# Altium schematic symbol library SVN_lib.SchLib: 165 symbols (part 1 of 2)
Pins are listed as number, name and electrical type; pins without a type are passive.

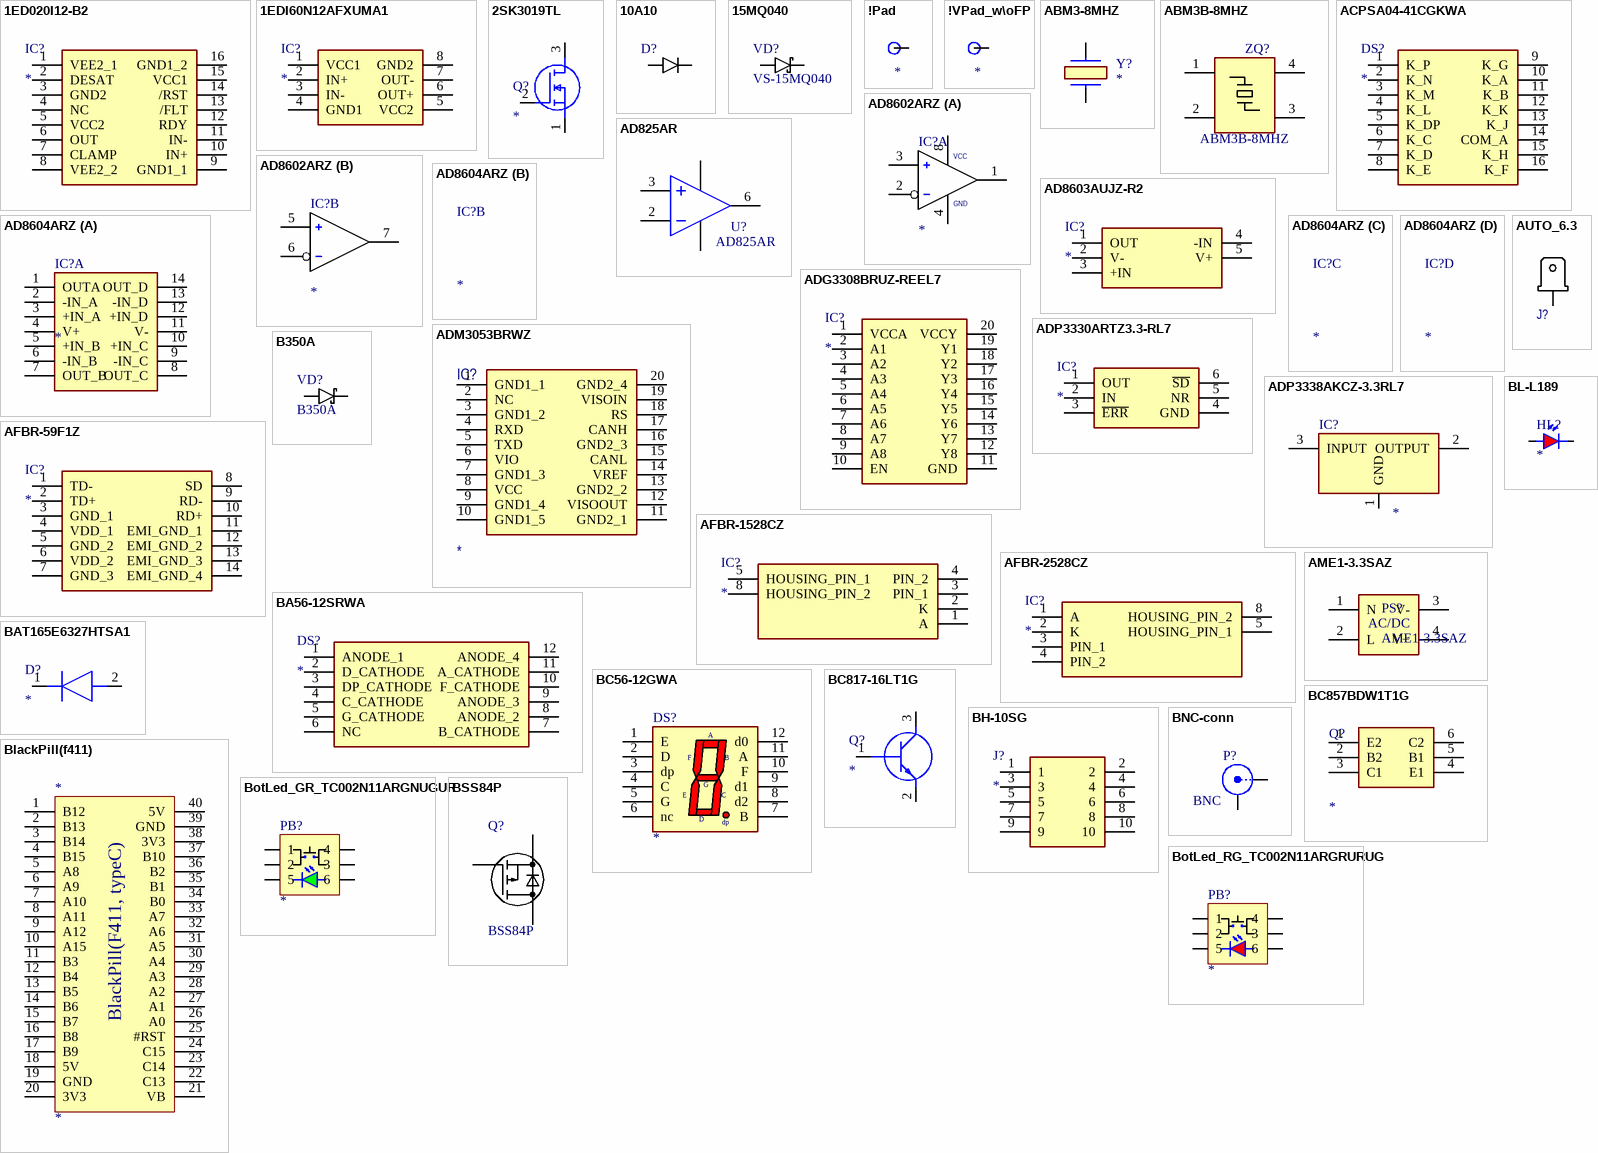
[diagram p0: symbols 1ED020I12-B2 to BSS84P]

## 1ED020I12-B2
designator IC?
Integrated Circuit; Manufacturer_Name: Infineon; Manufacturer_Part_Number: 1ED020I12-B2; Datasheet Link: https://www.infineon.com/dgdl/Infineon-1ED020I12-B2-DS-v02_01-EN.pdf?fileId=db3a304333227b5e013344bf16f84ca6; Height: 2.64mm; Mouser Part Number: 641-1ED020I12-B2; Mouser Price/Stock: https://www.mouser.co.uk/ProductDetail/Infineon-Technologies/1ED020I12-B2?qs=SxJJk0kk1p9Jwv3JdBgdAg%3D%3D
footprint SOIC127P1028X264-16N
pins: 1 VEE2_1, 2 DESAT, 3 GND2, 4 NC, 5 VCC2, 6 OUT, 7 CLAMP, 8 VEE2_2, 9 GND1_1, 10 IN+, 11 IN-, 12 RDY, 13 /FLT, 14 /RST, 15 VCC1, 16 GND1_2

## 1EDI60N12AFXUMA1
designator IC?
Integrated Circuit; Manufacturer_Name: Infineon; Manufacturer_Part_Number: 1EDI60N12AFXUMA1; Datasheet Link: https://www.infineon.com/dgdl/Infineon-1EDI60N12AF-DS-v02_00-EN.pdf?fileId=db3a3043427ac3e201428e5da08f372a; Height: 1.75mm; Mouser Part Number: 726-1EDI60N12AFXUMA1; Mouser Price/Stock: https://www.mouser.co.uk/ProductDetail/Infineon-Technologies/1EDI60N12AFXUMA1?qs=3Bi3m9r5MQZ%2FPKSdeeAtFg%3D%3D; Arrow Part Number: 1EDI60N12AFXUMA1; Arrow Price/Stock: https://www.arrow.com/en/products/1edi60n12afxuma1/infineon-technologies-ag?region=nac
footprint SOIC127P600X175-8N
pins: 1 VCC1, 2 IN+, 3 IN-, 4 GND1, 5 VCC2, 6 OUT+, 7 OUT-, 8 GND2

## 2SK3019TL
designator Q?
MOSFET (N-Channel); Manufacturer_Name: ROHM Semiconductor; Manufacturer_Part_Number: 2SK3019TL; Datasheet Link: http://www.mouser.com/ds/2/348/2sk3019-208766.pdf; Height: 0.8mm; Mouser Part Number: 755-2SK3019TL; Mouser Price/Stock: https://www.mouser.co.uk/ProductDetail/ROHM-Semiconductor/2SK3019TL?qs=4kLU8WoGk0vQcc5cG%2F%2FTDQ%3D%3D
footprint 2SK3019TL
pins: 1 S, 2 G, 3 D

## 10A10
designator D?
Case: P-600
footprint 10A10 (Diode)
footprint 10A10x18mm (Diode)
footprint 10A10x28mm (Diode)
pins: 1, 2

## 15MQ040
designator VD?, comment VS-15MQ040
High Performance Schottky Rectifier, 1.5 A
footprint SMA (DO-214AC) (Schottky Rectifier)
pins: 1 K, 2 A

## !Pad
designator Pad?
System: Connector; NetName: *
footprint Pad_2mm
footprint Pad_3mm
footprint Pad_4mm
pins: 1

## !VPad_w\oFP
designator VPad?  (mechanical)
Virtual connector; NetName: *; System: Connector
pins: 1

## ABM3-8MHZ
designator Y?
Crystal D2Y; Manufacturer_Name: ABRACON; Manufacturer_Part_Number: ABM3-10.0000MHZ-D2Y-T; Datasheet Link: https://abracon.com/Resonators/abm3.pdf; Height: 1.3mm; Mouser Part Number: 815-ABM3-10-D2Y-T; Mouser Price/Stock: http://www.mouser.com/Search/ProductDetail.aspx?qs=ihRgKfnEsN6ts1%252bYjBf2Rg%3d%3d
footprint D2Y (Dual pin crystal)
pins: 1, 2

## ABM3B-8MHZ
designator ZQ?
footprint Quartz 5x3.2 mm
pins: 1, 2 GND, 3, 4 GND
2 alternate drawings of the same symbol

## ACPSA04-41CGKWA
designator DS?
Display; Manufacturer_Name: Kingbright; Manufacturer_Part_Number: ACPSA04-41CGKWA; Datasheet Link: https://datasheet.datasheetarchive.com/originals/dk/DKDS-14/260750.pdf; Height: 4mm; Mouser Part Number: 604-ACPSA04-41CGKWA; Mouser Price/Stock: https://www.mouser.co.uk/ProductDetail/Kingbright/ACPSA04-41CGKWA/?qs=f499HRGa1RkJ71DaUd7G2A%3D%3D
footprint ACPSA0441CGKWA
pins: 1 K_P, 2 K_N, 3 K_M, 4 K_L, 5 K_DP, 6 K_C, 7 K_D, 8 K_E, 9 K_G, 10 K_A, 11 K_B, 12 K_K, 13 K_J, 14 COM_A, 15 K_H, 16 K_F

## AD825AR
designator U?
Single Channel Low Distortion Operational Amplifier, 46 MHz BW, 140 V/us SR, Industrial, 8-pin SOIC (R-8), Tube; Generic Part Number: AD825; Manufacturer: Analog Devices; Amplifiers Per Package: 1; Input Bias Current: 10pA; Input Offset Voltage: 1mV; Iq/Amp: 7.2mA; Small Signal Bandwidth: 46MHz; V Span Max: 36V; V Span Min: 10V; DatasheetVersion: Rev. F; PackageVersion: 060506-A; PackageReference: R-8; PackageDescription: 8-Pin Standard Small Outline Package, Body 3.9 x 4.9 mm, Pitch 1.27 mm; Supplier 1: Digi-Key; Supplier Part Number 1: AD825AR-ND; Packing: Tube; Slew Rate: 140V/us; Mounting Technology: Surface Mount; Code_JEDEC: MS-012-AA; PartNumber: AD825AR; ComponentLink1Description: Manufacturer URL; ComponentLink1URL: http://www.analog.com/en/index.html; ComponentLink2Description: Datasheet; ComponentLink2URL: http://www.analog.com/static/imported-files/data_sheets/AD825.pdf; ComponentLink3Description: Package Specification; ComponentLink3URL: http://www.analog.com/static/imported-files/packages/PKG_PDF/SOIC_Narrow%20(R)/R_8.pdf
footprint SOIC127P600X175-8N
pins: 2 -IN, 3 +IN, 4 -VS (power), 6 OUT, 7 +VS (power)

## AD8602ARZ
designator IC?
Precision CMOS Single-Supply Rail-to-Rail Input/Output Wideband Operational Amplifiers; Manufacturer_Name: Analog Devices; Manufacturer_Part_Number: AD8604ARZ; Datasheet Link: http://www.analog.com/static/imported-files/data_sheets/AD8601_8602_8604.pdf; Height: 1.75mm; Mouser Part Number: 584-AD8604ARZ; Mouser Price/Stock: https://www.mouser.co.uk/ProductDetail/Analog-Devices/AD8604ARZ?qs=%2FtpEQrCGXCy16yvAUhSq%252Bg%3D%3D; Arrow Part Number: AD8604ARZ; Arrow Price/Stock: https://www.arrow.com/en/products/ad8604arz/analog-devices?region=nac
footprint SOIC127P600X175-8N
part A pins: 1 OUTA, 2 INA-, 3 INA+, 4 V- (power), 8 V+ (power)
part B pins: 5 INB+, 6 INB-, 7 OUTB
part A text: VCC; GND

## AD8603AUJZ-R2
designator IC?
Integrated Circuit; Manufacturer_Name: Analog Devices; Manufacturer_Part_Number: AD8603AUJZ-R2; Datasheet Link: http://componentsearchengine.com/Datasheets/3/AD8603AUJZ-R2.pdf; Height: 1mm; Mouser Part Number: 584-AD8603AUJZ-R2; Mouser Price/Stock: https://www.mouser.co.uk/ProductDetail/Analog-Devices/AD8603AUJZ-R2?qs=%2FtpEQrCGXCz806yK%2FNO2XQ%3D%3D; Arrow Part Number: AD8603AUJZ-R2; Arrow Price/Stock: https://www.arrow.com/en/products/ad8603aujz-r2/analog-devices?region=nac
footprint SOT95P280X100-5N
pins: 1 OUT, 2 V-, 3 +IN, 4 -IN, 5 V+

## AD8604ARZ
designator IC?
Precision CMOS Single-Supply Rail-to-Rail Input/Output Wideband Operational Amplifiers; Manufacturer_Name: Analog Devices; Manufacturer_Part_Number: AD8604ARZ; Datasheet Link: http://www.analog.com/static/imported-files/data_sheets/AD8601_8602_8604.pdf; Height: 1.75mm; Mouser Part Number: 584-AD8604ARZ; Mouser Price/Stock: https://www.mouser.co.uk/ProductDetail/Analog-Devices/AD8604ARZ?qs=%2FtpEQrCGXCy16yvAUhSq%252Bg%3D%3D; Arrow Part Number: AD8604ARZ; Arrow Price/Stock: https://www.arrow.com/en/products/ad8604arz/analog-devices?region=nac
footprint SOIC127P600X175-14N
part A pins: 1 OUTA, 2 -IN_A, 3 +IN_A, 4 V+, 5 +IN_B, 6 -IN_B, 7 OUT_B, 8 OUT_C, 9 -IN_C, 10 +IN_C, 11 V-, 12 +IN_D, 13 -IN_D, 14 OUT_D
1 alternate drawing of the same symbol

## ADG3308BRUZ-REEL7
designator IC?
Integrated Circuit; Manufacturer_Name: Analog Devices; Manufacturer_Part_Number: ADG3308BRUZ-REEL7; Datasheet Link: https://www.analog.com/media/en/technical-documentation/data-sheets/ADG3308_3308-1.pdf; Height: 1.2mm; Mouser Part Number: 584-ADG3308BRUZ-R7; Mouser Price/Stock: https://www.mouser.co.uk/ProductDetail/Analog-Devices/ADG3308BRUZ-REEL7?qs=BpaRKvA4VqH2lUfFB9ZyXg%3D%3D; Arrow Part Number: ADG3308BRUZ-REEL7; Arrow Price/Stock: https://www.arrow.com/en/products/adg3308bruz-reel7/analog-devices?region=nac
footprint SOP65P640X120-20N
pins: 1 VCCA, 2 A1, 3 A2, 4 A3, 5 A4, 6 A5, 7 A6, 8 A7, 9 A8, 10 EN, 11 GND, 12 Y8, 13 Y7, 14 Y6, 15 Y5, 16 Y4, 17 Y3, 18 Y2, 19 Y1, 20 VCCY

## ADM3053BRWZ
designator IC?
Цифровой изолятор,трансивер; Ch: 2; 1Мбит/с; SO20-W; Manufacturer_Name: Analog Devices; Manufacturer_Part_Number: ADM3053BRWZ; Datasheet Link: https://componentsearchengine.com/Datasheets/2/ADM3053BRWZ.pdf; Height: 2.65mm; Mouser Part Number: 584-ADM3053BRWZ; Mouser Price/Stock: https://www.mouser.co.uk/ProductDetail/Analog-Devices/ADM3053BRWZ?qs=BpaRKvA4VqGZYG1hZ9cdqw%3D%3D; Arrow Part Number: ADM3053BRWZ; Arrow Price/Stock: https://www.arrow.com/en/products/adm3053brwz/analog-devices?region=nac
footprint SOIC127P1032X265-20N
pins: 1 GND1_1, 2 NC, 3 GND1_2, 4 RXD, 5 TXD, 6 VIO, 7 GND1_3, 8 VCC, 9 GND1_4, 10 GND1_5, 11 GND2_1, 12 VISOOUT, 13 GND2_2, 14 VREF, 15 CANL, 16 GND2_3, 17 CANH, 18 RS, 19 VISOIN, 20 GND2_4
1 alternate drawing of the same symbol

## ADP3330ARTZ3.3-RL7
designator IC?
Integrated Circuit; Manufacturer_Name: Analog Devices; Manufacturer_Part_Number: ADP3330ARTZ3.3-RL7; Datasheet Link: http://www.analog.com/static/imported-files/data_sheets/ADP3330.pdf; Height: 1.45mm; Mouser Part Number: 584-ADP3330ARTZ3.3R7; Mouser Price/Stock: https://www.mouser.co.uk/ProductDetail/Analog-Devices/ADP3330ARTZ33-RL7?qs=WIvQP4zGanjatFGUBQ2Z0w%3D%3D; Arrow Part Number: ADP3330ARTZ3.3-RL7; Arrow Price/Stock: https://www.arrow.com/en/products/adp3330artz3.3-rl7/analog-devices
footprint SOT95P280X145-6N
pins: 1 OUT, 2 IN, 3 ~{ERR}, 4 GND, 5 NR, 6 ~{SD}

## ADP3338AKCZ-3.3RL7
designator IC?
High Accuracy, Ultralow IQ, 1 A, anyCAP Low Dropout Regulator; Manufacturer_Name: Texas Instruments; Manufacturer_Part_Number: LM2937IMP-3.3/NOPB; Datasheet Link: https://www.ti.com/lit/ds/symlink/lm2937.pdf?ts=1607582693087&ref_url=https%253A%252F%252Fwww.ti.com%252Fsitesearch%252Fdocs%252Funiversalsearch.tsp%253FsearchTerm%253DLM2937IMP-3.3%252FNOPB; Height: 1.8mm; Mouser Part Number: 926-LM2937IMP3.3NOPB; Mouser Price/Stock: https://www.mouser.co.uk/ProductDetail/Texas-Instruments/LM2937IMP-33-NOPB/?qs=X1J7HmVL2ZFVwNOBcwuxRQ%3D%3D; Arrow Part Number: LM2937IMP-3.3/NOPB; Arrow Price/Stock: https://www.arrow.com/en/products/lm2937imp-3.3nopb/texas-instruments
footprint SOT-223 \w pad (TO-261-AA)
pins: 1 GND, 2 OUTPUT, 3 INPUT
1 alternate drawing of the same symbol

## AFBR-59F1Z
designator IC?
Integrated Circuit; Manufacturer_Name: Avago Technologies; Manufacturer_Part_Number: AFBR-59F1Z; Datasheet Link: https://docs.broadcom.com/docs/AV02-4107EN; Height: 11.05mm; Mouser Part Number: 630-AFBR59F1Z; Mouser Price/Stock: https://www.mouser.co.uk/ProductDetail/Broadcom-Avago/AFBR-59F1Z?qs=sfs0HZCnrVC1zkDHrQfKgA%3D%3D
footprint AFBR59F1Z
pins: 1 TD-, 2 TD+, 3 GND_1, 4 VDD_1, 5 GND_2, 6 VDD_2, 7 GND_3, 8 SD, 9 RD-, 10 RD+, 11 EMI_GND_1, 12 EMI_GND_2, 13 EMI_GND_3, 14 EMI_GND_4

## AFBR-1528CZ
designator IC?
Integrated Circuit; Manufacturer_Name: Avago Technologies; Manufacturer_Part_Number: AFBR-1528CZ; Datasheet Link: https://docs.broadcom.com/docs/pub-005757; Height: 7.6mm; Mouser Part Number: 630-AFBR-1528CZ; Mouser Price/Stock: https://www.mouser.co.uk/ProductDetail/Broadcom-Avago/AFBR-1528CZ/?qs=JUmsgfbaopQBpiKa9Md%2Flw%3D%3D
footprint AFBR1528CZ
pins: 1 A, 2 K, 3 PIN_1, 4 PIN_2, 5 HOUSING_PIN_1, 8 HOUSING_PIN_2

## AFBR-2528CZ
designator IC?
Integrated Circuit; Manufacturer_Name: Avago Technologies; Manufacturer_Part_Number: AFBR-2528CZ; Datasheet Link: https://www.mouser.com/datasheet/2/678/ub-005757_DS_AFBR-1528CZ_AFBR-2528CZ_2016-10-03-1130994.pdf; Height: 7.6mm; Mouser Part Number: 630-AFBR-2528CZ; Mouser Price/Stock: https://www.mouser.co.uk/ProductDetail/Broadcom-Avago/AFBR-2528CZ/?qs=JUmsgfbaopRCd4Yx0HH7DA%3D%3D
footprint AFBR2528CZ
pins: 1 A, 2 K, 3 PIN_1, 4 PIN_2, 5 HOUSING_PIN_1, 8 HOUSING_PIN_2

## AME1-3.3SAZ
designator PS?
AC/DC преобразователь, 1Вт, 3.3В/0.3А
footprint AME1-3.3SAZ (AC/DC, 1W, 3.3V/0.3A)
pins: 1 N (power), 2 L (power), 3 V- (power), 4 V+ (power)
text: AC/DC

## AUTO_6.3
designator J?  (value not drawn)
Part Number: Auto 6.3; Table: Terminals; Component Kind: Standard; Component Type: Standard; Footprint: Avtopin_6.3; Pin Count: 3; SMD: No
footprint Avtopin_6.3
pins: 1

## B350A
designator VD?
High Performance Schottky Rectifier / Reverse Voltage - 20 to 100 Volts Forward Current - 3.0 Amperes
footprint SMA (DO-214AC) (Schottky Rectifier)
pins: 1 K, 2 A

## BA56-12SRWA
designator DS?
Display; Manufacturer_Name: Kingbright; Manufacturer_Part_Number: BA56-12SRWA; Datasheet Link: http://www.mouser.com/ds/2/216/BA56-12SRWA-39648.pdf; Height: 8.1mm; Mouser Part Number: 604-BA56-12SRWA; Mouser Price/Stock: https://www.mouser.co.uk/ProductDetail/Kingbright/BA56-12SRWA?qs=SxaZfIVsCL2GBVly1l0tvQ%3D%3D; Arrow Part Number: BA56-12SRWA; Arrow Price/Stock: https://www.arrow.com/en/products/ba56-12srwa/kingbright
footprint DIPS1524W50P254L3760H810Q12N
pins: 1 ANODE_1, 2 D_CATHODE, 3 DP_CATHODE, 4 C_CATHODE, 5 G_CATHODE, 6 NC, 7 B_CATHODE, 8 ANODE_2, 9 ANODE_3, 10 F_CATHODE, 11 A_CATHODE, 12 ANODE_4

## BAT165E6327HTSA1
designator D?
Diode; Manufacturer_Name: Infineon; Manufacturer_Part_Number: BAT165E6327HTSA1; Datasheet Link: https://www.infineon.com/dgdl/Infineon-BAT165SERIES-DS-v01_01-en.pdf?fileId=db3a304313d846880113df01f69804d6; Height: 1.1mm; Mouser Part Number: 726-BAT165E6327HTSA1; Mouser Price/Stock: https://www.mouser.co.uk/ProductDetail/Infineon-Technologies/BAT165E6327HTSA1?qs=K00xGehIljtOiGvGDAvWFg%3D%3D; Arrow Part Number: BAT165E6327HTSA1; Arrow Price/Stock: https://www.arrow.com/en/products/bat165e6327htsa1/infineon-technologies-ag?region=nac
footprint SOD2513X110N
pins: 1 K, 2 A

## BC56-12GWA
designator DS?
Display; Manufacturer_Name: Kingbright; Manufacturer_Part_Number: BC56-12GWA; Datasheet Link: http://www.kingbrightusa.com/images/catalog/SPEC/BC56-12GWA.pdf; Height: 8.1mm; Mouser Part Number: 604-BC5612GWA; Mouser Price/Stock: https://www.mouser.co.uk/ProductDetail/Kingbright/BC56-12GWA?qs=SxaZfIVsCL3Rcc8EwS8sgA%3D%3D
footprint BA56-12SRWA (Индикатор 14.2мм 3х7 красный ОК, 24мКд)
pins: 1 E, 2 D, 3 dp, 4 C, 5 G, 6 nc, 7 B, 8 d2, 9 d1, 10 F, 11 A, 12 d0

## BC817-16LT1G
designator Q?
Transistor BJT NPN; Manufacturer_Name: ON Semiconductor; Manufacturer_Part_Number: BC817-16LT1G; Datasheet Link: http://www.onsemi.com/pub/Collateral/BC817-16LT1-D.PDF; Height: 1.11mm; Mouser Part Number: 863-BC817-16LT1G; Mouser Price/Stock: https://www.mouser.co.uk/ProductDetail/ON-Semiconductor/BC817-16LT1G/?qs=vNc2DXHODiKRUuEF76D%2FVQ%3D%3D; Arrow Part Number: BC817-16LT1G; Arrow Price/Stock: https://www.arrow.com/en/products/bc817-16lt1g/on-semiconductor
footprint SOT96P237X111-3N
pins: 1 B, 2 E, 3 C

## BC857BDW1T1G
designator Q?
Transistor; Manufacturer_Name: ON Semiconductor; Manufacturer_Part_Number: BC857BDW1T1G; Datasheet Link: http://www.onsemi.com/pub/Collateral/BC856BDW1T1-D.PDF; Height: 1.1mm; Mouser Part Number: 863-BC857BDW1T1G; Mouser Price/Stock: https://www.mouser.co.uk/ProductDetail/ON-Semiconductor/BC857BDW1T1G/?qs=vNc2DXHODiJHpe2zaM6lCA%3D%3D; Arrow Part Number: BC857BDW1T1G; Arrow Price/Stock: https://www.arrow.com/en/products/bc857bdw1t1g/on-semiconductor
footprint SOT-363 (SC?88/SC70?6)
pins: 1 E2, 2 B2, 3 C1, 4 E1, 5 B1, 6 C2
2 alternate drawings of the same symbol

## BH-10SG
designator J?
Connector; Manufacturer_Name: Useconn Electronics; Manufacturer_Part_Number: BH-10SG; Datasheet Link: http://akizukidenshi.com/download/ds/useconn/BH-XXSG.pdf; Height: 9.1mm
footprint SHDR10W64P254_2X5_2032X910X910P
pins: 1, 2, 3, 4, 5, 6, 7, 8, 9, 10

## BL-L189
designator HL?
Betlux Electronics
footprint 1.8x1.4_LED_Blu_FlatTop
footprint 1.8x1.4_LED_Gre_FlatTop
footprint 1.8x1.4_LED_Red_FlatTop
footprint 1.8x1.4_LED_Yel_FlatTop
footprint 1.8x1.4_LED_Red_FlatTop_Tilted
pins: 1, 2
3 alternate drawings of the same symbol

## BlackPill(f411)
designator *
footprint BluePill (F411/ type С)
pins: 1 B12, 2 B13, 3 B14, 4 B15, 5 A8, 6 A9, 7 A10, 8 A11, 9 A12, 10 A15, 11 B3, 12 B4, 13 B5, 14 B6, 15 B7, 16 B8, 17 B9, 18 5V, 19 GND, 20 3V3, 21 VB, 22 C13, 23 C14, 24 C15, 25 #RST, 26 A0, 27 A1, 28 A2, 29 A3, 30 A4, 31 A5, 32 A6, 33 A7, 34 B0, 35 B1, 36 B2, 37 B10, 38 3V3, 39 GND, 40 5V
text: BlackPill(F411, typeC)

## BNC-conn
designator P?, comment BNC
BNC Elbow Connector; LatestRevisionDate: 17-Jul-2002; LatestRevisionNote: Re-released for DXP Platform.; Publisher: Altium Limited
footprint BNC_RA CON (Connector; BNC Elbow)
pins: 1 X, 2 Y

## BotLed_GR_TC002N11ARGNUGUR
designator PB?
footprint BotLed_GR_TC002N11ARGNUGUR
pins: 1, 2, 3, 4, 5, 6

## BotLed_RG_TC002N11ARGRURUG
designator PB?
footprint BotLed_RG_TC002N11ARGRURUG
pins: 1, 2, 3, 4, 5, 6

## BSS84P
designator Q?
P-Channel, Transistor, VDS -60 V, RDS(on) 8,ID -0.17 A,  -SOT-23; Manufacturer_Name: Infineon; Datasheet Link: https://www.infineon.com/dgdl/Infineon-BSS84P-DS-v02_07-en.pdf?fileId=db3a304330f68606013118ac7a9b4549; Height: 1.1mm; Manufacturer_Part_Number: BSS84P
footprint SOT95P240X110-3N
pins: 1 G, 2 S, 3 D

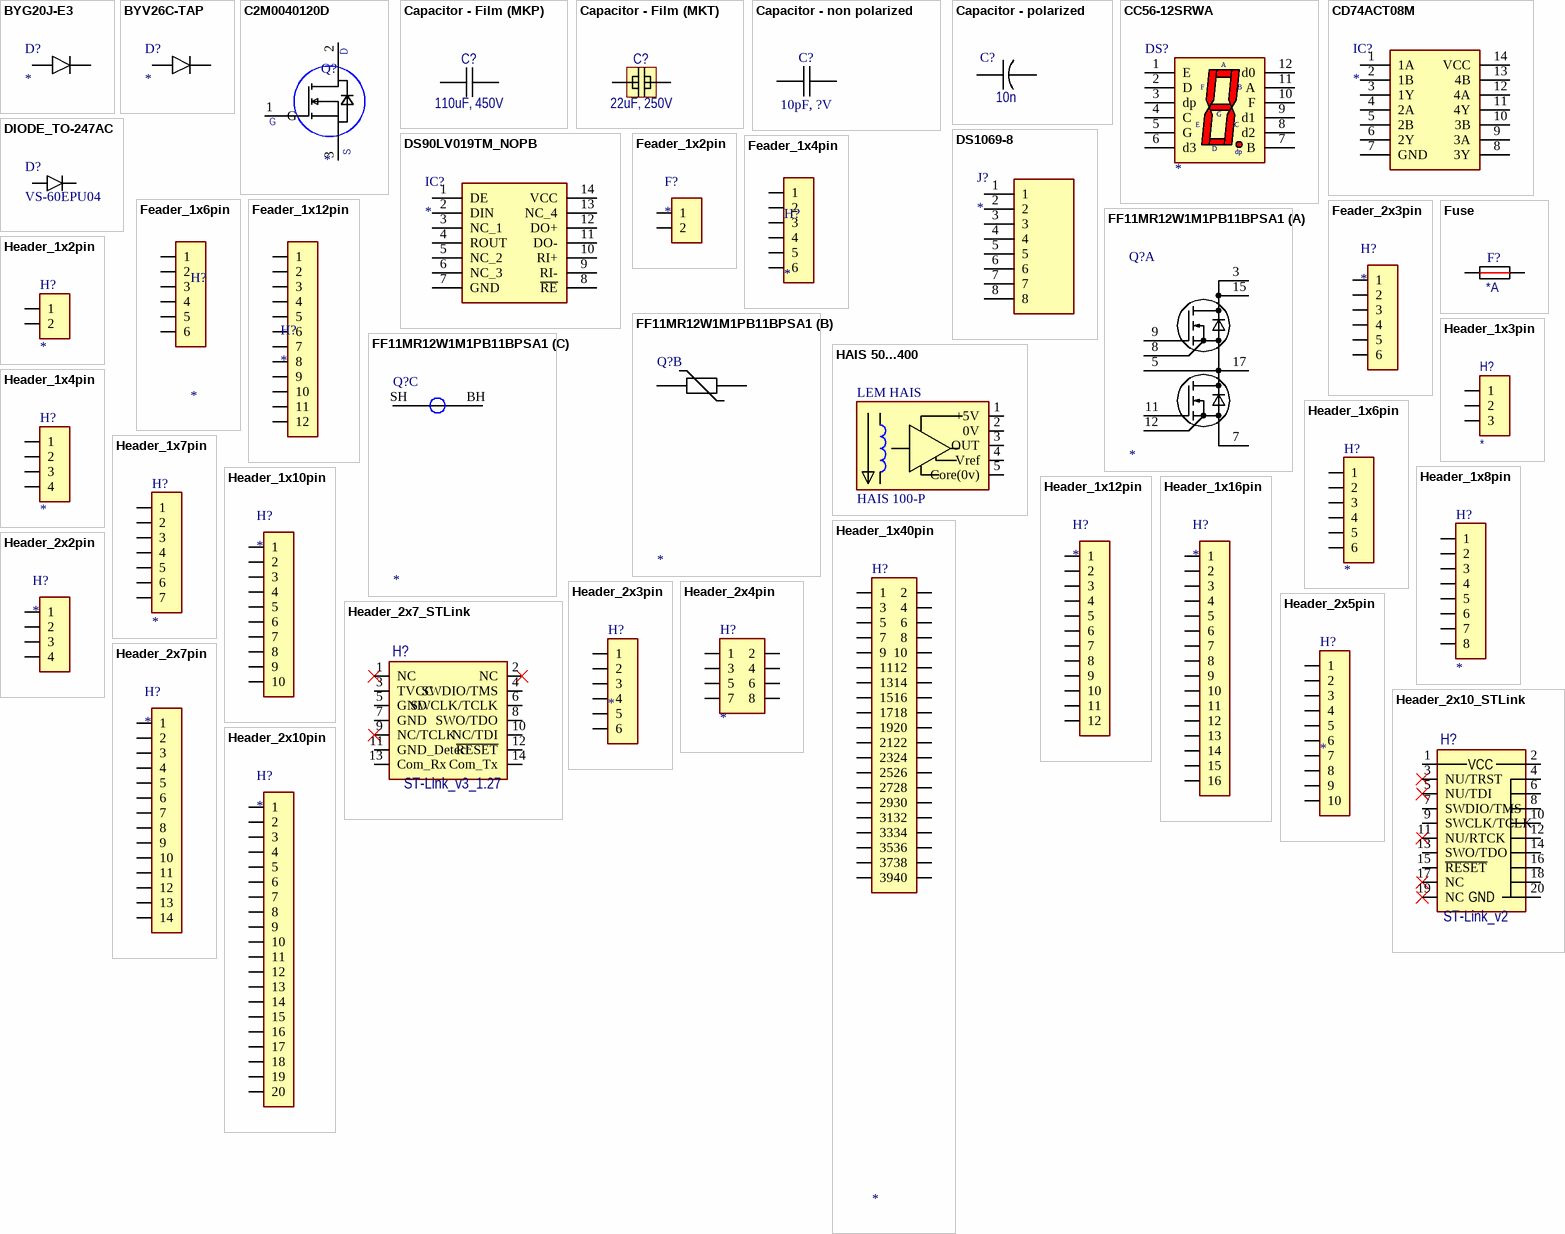
[diagram p1: symbols BYG20J-E3 to Header_2x10pin]

## BYG20J-E3
designator D?
Standard Avalanche SMD Rectifie; Manufacturer_Name: Vishay; Manufacturer_Part_Number: BYV26C-TAP; Datasheet Link: https://componentsearchengine.com/Datasheets/2/BYV26C-TAP.pdf; Mouser Part Number: 78-BYV26C-TAP; Mouser Price/Stock: https://www.mouser.co.uk/ProductDetail/Vishay-Semiconductors/BYV26C-TAP?qs=MEEM2Ld9hedpj36GmbfoWg%3D%3D; Arrow Part Number: BYV26C-TAP; Arrow Price/Stock: https://www.arrow.com/en/products/byv26c-tap/vishay?region=europe
footprint SMA (DO-214AC) (Schottky Rectifier)
pins: 1 K, 2 A

## BYV26C-TAP
designator D?
Diode Fast soft-recovery / controlled avalanche rectifiers; Manufacturer_Name: Vishay; Manufacturer_Part_Number: BYV26C-TAP; Datasheet Link: https://componentsearchengine.com/Datasheets/2/BYV26C-TAP.pdf; Mouser Part Number: 78-BYV26C-TAP; Mouser Price/Stock: https://www.mouser.co.uk/ProductDetail/Vishay-Semiconductors/BYV26C-TAP?qs=MEEM2Ld9hedpj36GmbfoWg%3D%3D; Arrow Part Number: BYV26C-TAP; Arrow Price/Stock: https://www.arrow.com/en/products/byv26c-tap/vishay?region=europe
footprint DIOAD1840W82L400D360
footprint BYV26C_8mm
footprint BYV26C_18mm
footprint BYV26C_14mm
footprint BYV26C_11mm
pins: 1 K, 2 A

## C2M0040120D
designator Q?
MOSFET (N-Channel) / VDS 1200 V I 55 A / RDS(on) 40 mΩ; Manufacturer_Name: Infineon; Manufacturer_Part_Number: IPW60R017C7; Height: 5.21mm; Mouser Part Number: N/A; Mouser Price/Stock: https://www.mouser.com/Search/Refine.aspx?Keyword=N%2FA
footprint TO-247_mid_line
footprint TO-247_mar_line
footprint TO-247_back_mid_line
footprint TO-247_line
footprint TO-247_face_mar_line
footprint TO-247_face_mid_line
pins: 1 G, 2 D, 3 S
3 alternate drawings of the same symbol

## Capacitor - Film (MKP)
designator C?, comment 110uF, 450V
Metallized Polypropylene Film Capacitors (MKP) Series/Type: B32774 ... B32778, B32778G4117K000 --- w- 35.0 × h-50.0 × l-57.5, 4 pin 52.5x20.3; Value: 110uF, 450V
footprint B32778G4117K000 (110 uF, 450 V)
footprint B32654A4105 (1u, 400VDC, 200VAC)
footprint B32778x0 (1100 V)
pins: 1, 2
1 alternate drawing of the same symbol

## Capacitor - Film (MKT)
designator C?, comment 22uF, 250V
Metallized Polyester Film Capacitors (MKT) Series/Type: B32520 ... B32529, B32526R3226+ --- w-16.0 ×h- 28.5 × l- 41.5, 2 pin -- 37.5.; Value: 22uF, 250V; Dims: w-16.0 ×h- 28.5 × l- 41.5, 2 pin -- 37.5.
footprint B32526R3226K000
pins: 1, 2

## Capacitor - non polarized
designator C?, comment 10pF, ?V
Non-polarised capacitor; Value: 10pF, ?V
footprint C_0603 (Chip Capacitor, Body 1.0x0.55mm, IPC Medium Density)
footprint C_1812
footprint C_2220
footprint C_0805 (Chip Capacitor, Body 1.0x0.55mm, IPC Medium Density)
footprint C_1206
pins: 1, 2
1 alternate drawing of the same symbol

## Capacitor - polarized
designator C?, comment 10n
Polarised capacitor; Value: 10n
footprint C_3216_1206_TypeA (Capacitor, Polarized, Molded  Body 3.2x1.6mm, IPC Medium Density)
footprint C_7343_2917_TypeD (Capacitor, Polarized, Molded  Body 3.2x1.6mm, IPC Medium Density)
footprint C_3528_1210_TypeB (Capacitor, Polarized, Molded  Body 3.2x1.6mm, IPC Medium Density)
footprint C_el_type_C(6.3x5.4) (Capacitor, Aluminium Electrolytric, 6.6mm L X 6.6mm W X 5.4mm H, IPC Medium Density)
pins: 1, 2
1 alternate drawing of the same symbol

## CC56-12SRWA
designator DS?
Индикатор 14.2мм 4х7 красный ОК, 24мКд; Manufacturer_Name: Kingbright; Manufacturer_Part_Number: BC56-12GWA; Datasheet Link: http://www.kingbrightusa.com/images/catalog/SPEC/BC56-12GWA.pdf; Height: 8.1mm; Mouser Part Number: 604-BC5612GWA; Mouser Price/Stock: https://www.mouser.co.uk/ProductDetail/Kingbright/BC56-12GWA?qs=SxaZfIVsCL3Rcc8EwS8sgA%3D%3D
footprint CC56-12SRWA (Индикатор 14.2мм 4х7 красный ОК, 24мКд)
pins: 1 E, 2 D, 3 dp, 4 C, 5 G, 6 d3, 7 B, 8 d2, 9 d1, 10 F, 11 A, 12 d0

## CD74ACT08M
designator IC?
Integrated Circuit; Manufacturer_Name: Texas Instruments; Manufacturer_Part_Number: CD74ACT08M; Datasheet Link: http://www.ti.com/lit/ds/symlink/cd74act08.pdf; Height: 1.75mm; Mouser Part Number: 595-CD74ACT08M; Mouser Price/Stock: https://www.mouser.co.uk/ProductDetail/Texas-Instruments/CD74ACT08M?qs=Dqy2GfToSoQdsNWXM2phYA%3D%3D
footprint SOIC127P600X175-14N
pins: 1 1A, 2 1B, 3 1Y, 4 2A, 5 2B, 6 2Y, 7 GND, 8 3Y, 9 3A, 10 3B, 11 4Y, 12 4A, 13 4B, 14 VCC

## DIODE_TO-247AC
designator D?, comment VS-60EPU04
footprint TO-247_MOD_back_mid_line
pins: 1, 2

## DS90LV019TM_NOPB
designator IC?
Integrated Circuit; Manufacturer_Name: Texas Instruments; Manufacturer_Part_Number: DS90LV019TM/NOPB; Datasheet Link: http://www.ti.com/lit/ds/symlink/ds90lv019.pdf; Height: 1.753mm; Mouser Part Number: 926-DS90LV019TM/NOPB; Mouser Price/Stock: https://www.mouser.co.uk/ProductDetail/Texas-Instruments/DS90LV019TM-NOPB/?qs=X1J7HmVL2ZGe7r2ju2VEQw%3D%3D; Arrow Part Number: DS90LV019TM/NOPB; Arrow Price/Stock: https://www.arrow.com/en/products/ds90lv019tmnopb/texas-instruments
footprint SOIC127P599X175-14N
pins: 1 DE, 2 DIN, 3 NC_1, 4 ROUT, 5 NC_2, 6 NC_3, 7 GND, 8 ~{RE}, 9 RI-, 10 RI+, 11 DO-, 12 DO+, 13 NC_4, 14 VCC

## DS1069-8
designator J?
Connector; Manufacturer_Name: Connfly; Manufacturer_Part_Number: DS1069-8; Datasheet Link: https://static.chipdip.ru/lib/413/DOC001413777.pdf; Height: 7mm
footprint DS1069-8
footprint DS1069-8_ang
footprint DS1069-8-MR
pins: 1, 2, 3, 4, 5, 6, 7, 8

## Feader_1x2pin
designator F?
PLD-2 w\o header!; Parameter 1: 444
footprint Feader_1x2 (4 Contacts - Pitch 2.54mm - Dual Row Through Mount Straight Header (Post Lead = 6.35mm, Tail Lead 3.05mm, Insulator 1.52mm))
pins: 1, 2
1 alternate drawing of the same symbol

## Feader_1x4pin
designator H?
PLD-4 w\o header!; System: Connector
footprint Feader_1x4 (4 Contacts - Pitch 2.54mm - Dual Row Through Mount Straight Header (Post Lead = 6.35mm, Tail Lead 3.05mm, Insulator 1.52mm))
pins: 1, 2, 3, 4, 5, 6
2 alternate drawings of the same symbol

## Feader_1x6pin
designator H?
PLD-6 w\o header!; System: Connector
footprint Feader_1x6 (6 Contacts - Pitch 2.54mm - Dual Row Through Mount Straight Header (Post Lead = 6.35mm, Tail Lead 3.05mm, Insulator 1.52mm))
footprint Feader_1x6_1.27 (6 Contacts - Pitch 1.27mm - Dual Row Through Mount Straight Header (Post Lead = 6.35mm, Tail Lead 3.05mm, Insulator 1.52mm))
pins: 1, 2, 3, 4, 5, 6
2 alternate drawings of the same symbol

## Feader_1x12pin
designator H?
PLD-12 w\o header!; Parameter 1: 444
footprint Feader_1x12 (6 Contacts - Pitch 2.54mm - Dual Row Through Mount Straight Header (Post Lead = 6.35mm, Tail Lead 3.05mm, Insulator 1.52mm))
pins: 1, 2, 3, 4, 5, 6, 7, 8, 9, 10, 11, 12
1 alternate drawing of the same symbol

## Feader_2x3pin
designator H?
BH-6, IDC-6, DS-1013-06S; Parameter 1: 444
footprint Feader_2x3 (6 Contacts - Pitch 2.54mm - Dual Row Through Mount Straight Header (Post Lead = 6.35mm, Tail Lead 3.05mm, Insulator 1.52mm))
pins: 1, 2, 3, 4, 5, 6
1 alternate drawing of the same symbol

## FF11MR12W1M1PB11BPSA1
designator Q?
MOSFET (N-Channel); Manufacturer_Name: Infineon; Manufacturer_Part_Number: FF11MR12W1M1PB11BPSA1; Datasheet Link: https://www.infineon.com/dgdl/Infineon-FF11MR12W1M1P_B11-DataSheet-v02_00-EN.pdf?fileId=5546d462712ef9b7017153f130c95ebe; Height: 12.35mm; Mouser Part Number: 726-FF11MR12W1M1PB11; Mouser Price/Stock: https://www.mouser.co.uk/ProductDetail/Infineon-Technologies/FF11MR12W1M1PB11BPSA1?qs=GBLSl2Akiru48Vhm8U3ocA%3D%3D; Arrow Part Number: FF11MR12W1M1PB11BPSA1; Arrow Price/Stock: https://www.arrow.com/en/products/ff11mr12w1m1pb11bpsa1/infineon-technologies-ag?region=nac
footprint AG-EASY1B (Infineon Package)
footprint AG-EASY1B-M4
part A pins: 3 DC+L, 5 PhL, 7 DC-, 8 S_HS, 9 G_HS, 11 G_LS, 12 S_LS, 15 DC+R, 17 PhR
part B pins: 1 NTC_1, 2 NTC_2
part C pins: BH MH5, SH MH1

## Fuse
designator F?, comment *A
Fuse; 0.1W: *; Max Current: *A
footprint F_1812_style_1
pins: 1, 2
1 alternate drawing of the same symbol

## HAIS 50...400
designator LEM HAIS, comment HAIS 100-P
Vout=Vref+0.625/100*I, 100A=.625V, 300A=1.875V
footprint HAIS 50..400-P
pins: 1 +5V, 2 0V, 3 OUT, 4 Vref, 5 Core(0v)

## Header_1x2pin
designator H?
PLD-2; System: Connector
footprint Header_1x2_PLD (4 Contacts - Pitch 2.54mm - Dual Row Through Mount Straight Header (Post Lead = 6.35mm, Tail Lead 3.05mm, Insulator 1.52mm))
footprint KLS2-104-5.00-02P-4S (Винтовой клеммник 5мм, 45 град.)
pins: 1, 2
2 alternate drawings of the same symbol

## Header_1x3pin
designator H?
WF3R DS1070-3 MR,  2.54mm 3A/250V; System: Connector
footprint Header_1x3_WF-3R (4 Contacts - Pitch 2.54mm - Dual Row Through Mount Straight Header (Post Lead = 6.35mm, Tail Lead 3.05mm, Insulator 1.52mm))
footprint Header_1x3_WF-3 (4 Contacts - Pitch 2.54mm - Dual Row Through Mount Straight Header (Post Lead = 6.35mm, Tail Lead 3.05mm, Insulator 1.52mm))
footprint Header_1x3_PLD (3 Contacts - Pitch 2.54mm - Dual Row Through Mount Straight Header (Post Lead = 6.35mm, Tail Lead 3.05mm, Insulator 1.52mm))
pins: 1, 2, 3
1 alternate drawing of the same symbol

## Header_1x4pin
designator H?
WF-4R (DS1070-4 MR), PLD-4; System: Connector
footprint Header_1x4_WF-4R (4 Contacts - Pitch 2.54mm - Dual Row Through Mount Straight Header (Post Lead = 6.35mm, Tail Lead 3.05mm, Insulator 1.52mm))
footprint Header_1x4_PLD (6 Contacts - Pitch 2.54mm - Single Row Through Mount Straight Header (Post Lead = 6.35mm, Tail Lead 3.05mm, Insulator 1.52mm))
pins: 1, 2, 3, 4
2 alternate drawings of the same symbol

## Header_1x6pin
designator H?
PLD-6; System: Connector
footprint Header_1x6_PLD (6 Contacts - Pitch 2.54mm - Single Row Through Mount Straight Header (Post Lead = 6.35mm, Tail Lead 3.05mm, Insulator 1.52mm))
pins: 1, 2, 3, 4, 5, 6
1 alternate drawing of the same symbol

## Header_1x7pin
designator H?
PLD-7; System: Connector
footprint Feader_1x7 (6 Contacts - Pitch 2.54mm - Dual Row Through Mount Straight Header (Post Lead = 6.35mm, Tail Lead 3.05mm, Insulator 1.52mm))
footprint Header_1x7_PBS (Footprint not found)
footprint Header_1x7_PLD
pins: 1, 2, 3, 4, 5, 6, 7
1 alternate drawing of the same symbol

## Header_1x8pin
designator H?
PLD-8; System: Connector
footprint Feader_1x8 (6 Contacts - Pitch 2.54mm - Single Row Through Mount Straight Header (Post Lead = 6.35mm, Tail Lead 3.05mm, Insulator 1.52mm))
footprint Header_1x8_PBS
footprint Header_1x8_PLD
pins: 1, 2, 3, 4, 5, 6, 7, 8
1 alternate drawing of the same symbol

## Header_1x10pin
designator H?
PLS-10(R) (DS-1022-1x10); System: Connector
footprint Header_1x10_PLS_ang
pins: 1, 2, 3, 4, 5, 6, 7, 8, 9, 10
1 alternate drawing of the same symbol

## Header_1x12pin
designator H?
PLS-12(R) (DS-1022-1x12); System: Connector
footprint Header_1x12_PBS
footprint Header_1x12_PLD
pins: 1, 2, 3, 4, 5, 6, 7, 8, 9, 10, 11, 12
1 alternate drawing of the same symbol

## Header_1x16pin
designator H?
PLS-16(R) (DS-1022-1x16); System: Connector
footprint Header_1x16_PLS_ang
footprint Header_1x16_PLS_ang R2
pins: 1, 2, 3, 4, 5, 6, 7, 8, 9, 10, 11, 12, 13, 14, 15, 16
1 alternate drawing of the same symbol

## Header_1x40pin
designator H?
DS102x-1x40 PLx-40; System: Connector
footprint Header_1x40_PLH (6 Contacts - Pitch 2.54mm - Dual Row Through Mount Straight Header (Post Lead = 6.35mm, Tail Lead 3.05mm, Insulator 1.52mm))
pins: 1, 2, 3, 4, 5, 6, 7, 8, 9, 10, 11, 12, 13, 14, 15, 16, 17, 18, 19, 20, 21, 22, 23, 24, 25, 26, 27, 28, 29, 30, 31, 32, 33, 34, 35, 36, 37, 38, 39, 40
1 alternate drawing of the same symbol

## Header_2x2pin
designator H?
PLD-4; System: Connector
footprint Header_2x2_PLD (4 Contacts - Pitch 2.54mm - Dual Row Through Mount Straight Header (Post Lead = 6.35mm, Tail Lead 3.05mm, Insulator 1.52mm))
pins: 1, 2, 3, 4
1 alternate drawing of the same symbol

## Header_2x3pin
designator H?
BH-6, IDC-6, DS-1013-06S; System: Connector
footprint Header_2x3_BH (BH-6_IDC-6_DS-1013-06S)
footprint Header_2x3_BH_ang (BH-6R_IDC-6MR_DS-1013-06R)
footprint Header_2x3_PLD (6 Contacts - Pitch 2.54mm - Dual Row Through Mount Straight Header (Post Lead = 6.35mm, Tail Lead 3.05mm, Insulator 1.52mm))
footprint Header_2x3_PLD_ang
pins: 1, 2, 3, 4, 5, 6
2 alternate drawings of the same symbol

## Header_2x4pin
designator H?
PLD-8; System: Connector
footprint Header_2x4_PLD (4 Contacts - Pitch 2.54mm - Dual Row Through Mount Straight Header (Post Lead = 6.35mm, Tail Lead 3.05mm, Insulator 1.52mm))
pins: 1, 2, 3, 4, 5, 6, 7, 8
1 alternate drawing of the same symbol

## Header_2x5pin
designator H?
BH-10, IDC-10, DS-1013-10S; System: Connector
footprint Header_2x5_BH (BH-10_IDC-10_DS-1013-10S)
footprint Header_2x5_PLD (6 Contacts - Pitch 2.54mm - Dual Row Through Mount Straight Header (Post Lead = 6.35mm, Tail Lead 3.05mm, Insulator 1.52mm))
footprint Header_2x5_PLD_ang
footprint Header_2x5_BH_ang
pins: 1, 2, 3, 4, 5, 6, 7, 8, 9, 10
2 alternate drawings of the same symbol

## Header_2x7_STLink
designator H?, comment ST-Link_v3_1.27
1,27 Header; System: Connector
pins: 1 NC, 2 NC, 3 TVCC, 4 SWDIO/TMS, 5 GND, 6 SWCLK/TCLK, 7 GND, 8 SWO/TDO, 9 NC/TCLK, 10 NC/TDI, 11 GND_Detect, 12 ~{RESET}, 13 Com_Rx, 14 Com_Tx

## Header_2x7pin
designator H?
BH-14, IDC-14, DS-1013-14S; System: Connector
footprint Header_2x7_BH (BH-14_IDC-14_DS-1013-14S)
footprint Header_2x7_PLD (6 Contacts - Pitch 2.54mm - Dual Row Through Mount Straight Header (Post Lead = 6.35mm, Tail Lead 3.05mm, Insulator 1.52mm))
pins: 1, 2, 3, 4, 5, 6, 7, 8, 9, 10, 11, 12, 13, 14
1 alternate drawing of the same symbol

## Header_2x10_STLink
designator H?, comment ST-Link_v2
BH-20, IDC-20, DS-1013-20S; System: Connector
footprint Header_2x10_PLD (6 Contacts - Pitch 2.54mm - Dual Row Through Mount Straight Header (Post Lead = 6.35mm, Tail Lead 3.05mm, Insulator 1.52mm))
footprint Header_2x10_PLD_ang
footprint Header_2x10_BH (BH-20_IDC-20_DS-1013-20S)
pins: 1 VCC, 2 VCC, 3 NU/TRST, 4 GND, 5 NU/TDI, 6 GND, 7 SWDIO/TMS, 8 GND, 9 SWCLK/TCLK, 10 GND, 11 NU/RTCK, 12 GND, 13 SWO/TDO, 14 GND, 15 ~{RESET}, 16 GND, 17 NC, 18 GND, 19 NC, 20 GND

## Header_2x10pin
designator H?
BH-20, IDC-20, DS-1013-20S; System: Connector
footprint Header_2x10_PLD (6 Contacts - Pitch 2.54mm - Dual Row Through Mount Straight Header (Post Lead = 6.35mm, Tail Lead 3.05mm, Insulator 1.52mm))
footprint Header_2x10_PLD_ang
footprint Header_2x10_BH (BH-20_IDC-20_DS-1013-20S)
pins: 1, 2, 3, 4, 5, 6, 7, 8, 9, 10, 11, 12, 13, 14, 15, 16, 17, 18, 19, 20
1 alternate drawing of the same symbol

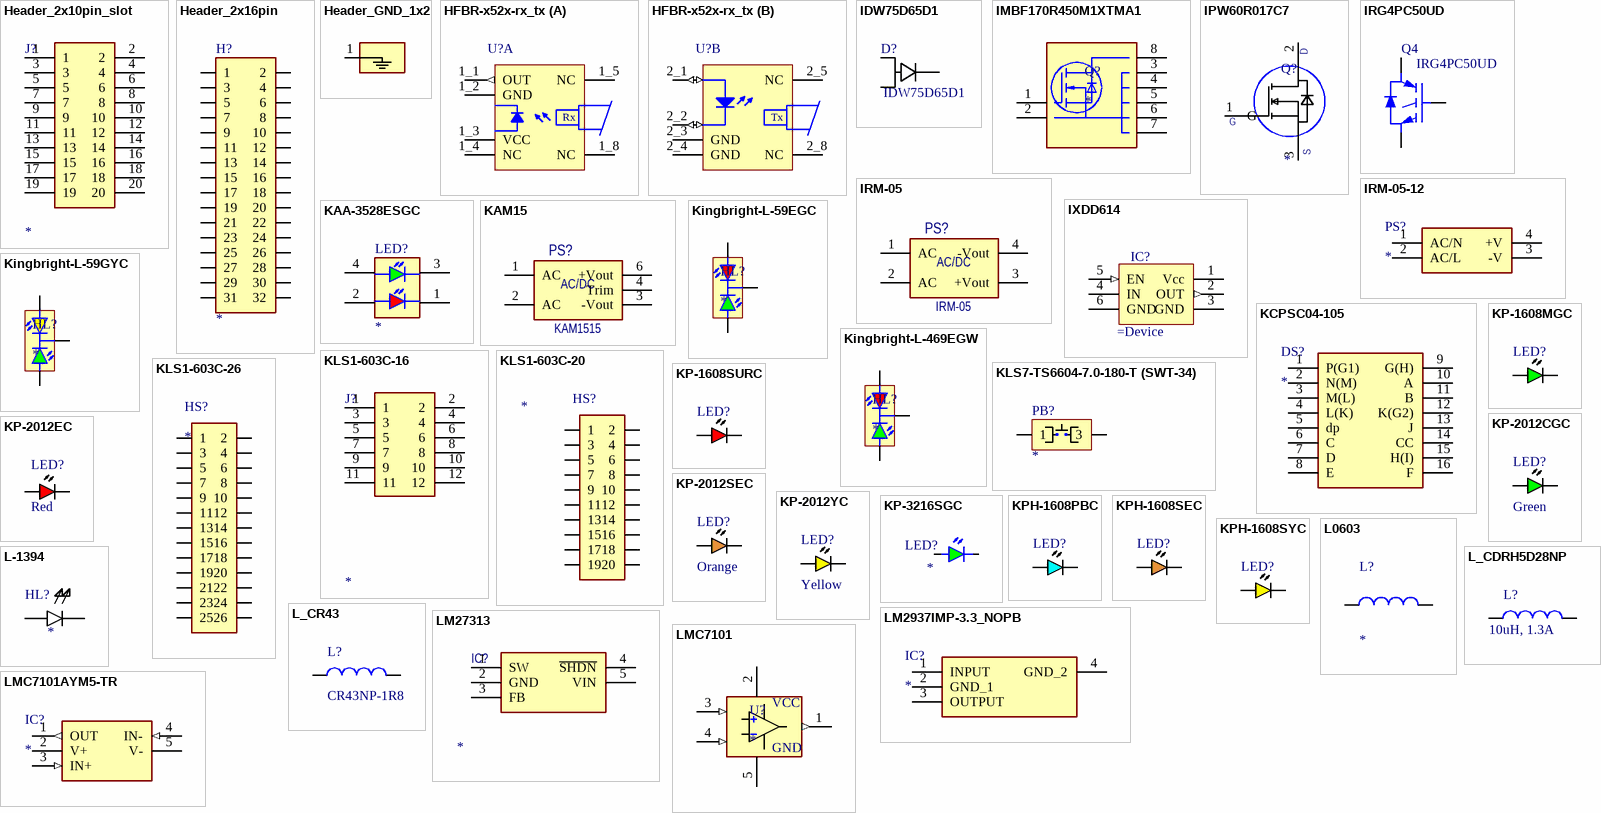
[diagram p2: symbols Header_2x10pin_slot to LMC7101AYM5-TR]

## Header_2x10pin_slot
designator J?
Connector; Manufacturer_Name: Connfly; Manufacturer_Part_Number: DS1069-8; Datasheet Link: https://static.chipdip.ru/lib/413/DOC001413777.pdf; Height: 7mm; System: Connector
footprint Header_2x10_PLD_slot (6 Contacts - Pitch 2.54mm - Dual Row Through Mount Straight Header (Post Lead = 6.35mm, Tail Lead 3.05mm, Insulator 1.52mm))
pins: 1, 2, 3, 4, 5, 6, 7, 8, 9, 10, 11, 12, 13, 14, 15, 16, 17, 18, 19, 20
1 alternate drawing of the same symbol

## Header_2x16pin
designator H?
PLS-16(R) (DS-1022-1x16); System: Connector
footprint Header_2x16_PLD (6 Contacts - Pitch 2.54mm - Dual Row Through Mount Straight Header (Post Lead = 6.35mm, Tail Lead 3.05mm, Insulator 1.52mm))
pins: 1, 2, 3, 4, 5, 6, 7, 8, 9, 10, 11, 12, 13, 14, 15, 16, 17, 18, 19, 20, 21, 22, 23, 24, 25, 26, 27, 28, 29, 30, 31, 32

## Header_GND_1x2
designator G?  (value not drawn)
PLD-2; System: Connector
footprint GND_1x2 (ground contact, 254mm)
pins: 1

## HFBR-x52x-rx_tx
designator U?
footprint HFBR-x52x-rx_tx (HFBR-0500Z Series, Fiber Optic Transmitter or Receiver, Through Hole Mount)
footprint HFBR-x52x-rx_tx_BL (HFBR-0500Z Series, Fiber Optic Transmitter adn Receiver, Through Hole Mount)
part A pins: 1_1 OUT (out), 1_2 GND (power), 1_3 VCC (power), 1_4 NC, 1_5 NC, 1_8 NC
part B pins: 2_1 A (io), 2_2 C (io), 2_3 GND, 2_4 GND, 2_5 NC, 2_8 NC
part A text: Rx
part B text: Tx

## IDW75D65D1
designator D?
Case: TO-247, 650V 75A
footprint TO-247_MOD_back_mid_line
footprint TO-247_line
pins: 1 A, 2 C, 3 A

## IMBF170R450M1XTMA1
designator Q?
MOSFET (N-Channel); Manufacturer_Name: Infineon; Manufacturer_Part_Number: IMBF170R450M1XTMA1; Datasheet Link: https://www.infineon.com/dgdl/Infineon-IMBF170R450M1-DataSheet-v02_01-EN.pdf?fileId=5546d462712ef9b70171820c850e1ad9; Height: 4.7mm; Mouser Part Number: 726-IMBF170R450M1XTM; Mouser Price/Stock: https://www.mouser.co.uk/ProductDetail/Infineon-Technologies/IMBF170R450M1XTMA1?qs=GedFDFLaBXFtPqcGQB0Feg%3D%3D; Arrow Part Number: IMBF170R450M1XTMA1; Arrow Price/Stock: https://www.arrow.com/en/products/imbf170r450m1xtma1/infineon-technologies-ag
footprint IMBF170R450M1XTMA1
pins: 1 GATE, 2 SENSE, 3 SOURCE_1, 4 SOURCE_2, 5 SOURCE_3, 6 SOURCE_4, 7 SOURCE_5, 8 DRAIN

## IPW60R017C7
designator Q?
MOSFET (N-Channel); Manufacturer_Name: Infineon; Manufacturer_Part_Number: IPW60R017C7; Height: 5.21mm; Mouser Part Number: N/A; Mouser Price/Stock: https://www.mouser.com/Search/Refine.aspx?Keyword=N%2FA
footprint TO-247_mid_line
footprint TO-247_mar_line
footprint TO-247_back_mid_line
footprint TO-247_line
footprint TO-247_face_mar_line
footprint TO-247_face_mid_line
pins: 1 G, 2 D, 3 S
2 alternate drawings of the same symbol

## IRG4PC50UD
designator Q4
Insulated Gate Bipolar Transistor with Ultrafast Soft Recovery Diode; Note: Pin 2 (collector) is electrically connected to the BASE; Published: 8-Jun-2000; DatasheetVersion: Apr-1997; PackageVersion: Aug-1997; PackageReference: TO-247AC; Publisher: Altium Limited; PackageDescription: SIP with Mounting Hole; 3 Leads; Body 20 x 15.6 x 5 mm (typ); Pitch 5.45 mm; Code_JEDEC: TO-247-AC; ComponentLink1Description: Manufacturer Link; ComponentLink1URL: http://www.irf.com/; ComponentLink2Description: Datasheet; ComponentLink2URL: http://www.irf.com/product-info/datasheets/data/irg4pc50ud.pdf; LatestRevisionDate: 17-Jul-2002; LatestRevisionNote: Re-released for DXP Platform.
footprint TO-247_line
pins: 1 G, 2 C, 3 E

## IRM-05
designator PS?
AC - DC POWER MODULE, 5W
footprint IRM-05 (5W AC-DC PCB-Mount Green Power Module)
pins: 1 AC (power), 2 AC (power), 3 +Vout (power), 4 -Vout (power)
1 alternate drawing of the same symbol
text: AC/DC

## IRM-05-12
designator PS?
Power Supply; Manufacturer_Name: Mean Well; Manufacturer_Part_Number: IRM-05-12; Datasheet Link: https://www.meanwell-web.com/content/files/pdfs/productPdfs/MW/IRM-05-spec.pdf; Mouser Part Number: 709-IRM05-12; Mouser Price/Stock: https://www.mouser.co.uk/ProductDetail/MEAN-WELL/IRM-05-12/?qs=WkdRfq4wf1P6e%2FlUvY44jA%3D%3D; Arrow Part Number: IRM-05-12; Arrow Price/Stock: https://www.arrow.com/en/products/irm-05-12/mean-well-enterprises
footprint IRM-05 (5W AC-DC PCB-Mount Green Power Module)
pins: 1 AC/N, 2 AC/L, 3 -V, 4 +V

## IXDD614
designator IC?
14-Ampere Low-Side / Ultrafast MOSFET Drivers
footprint TO-263-5 (D2-PAK, 6-Pads, Body 8,9x9,9mm (max), IPC Low Density)
pins: 1 Vcc (power), 2 OUT (out), 3 GND (power), 4 IN (power), 5 EN (in), 6 GND (power)

## KAA-3528ESGC
designator LED?
Double LED SMD; Manufacturer_Name: Kingbright; Manufacturer_Part_Number: KAA-3528ESGC; Datasheet Link: http://www.farnell.com/datasheets/68663.pdf; Height: 2.1mm; Mouser Part Number: N/A; Mouser Price/Stock: https://www.mouser.co.uk/ProductDetail/Kingbright/KAA-3528ESGC?qs=f6khj2Jg0FhBdxfzU38%2F0Q%3D%3D; Arrow Part Number: KAA-3528ESGC; Arrow Price/Stock: https://www.arrow.com/en/products/kaa-3528esgc/kingbright
footprint LED_3528m (Double LED)
pins: 1 K_E, 2 A_E, 3 K_SG, 4 A_SG
1 alternate drawing of the same symbol

## KAM15
designator PS?, comment KAM1515
AC - DC POWER MODULE, 13 ~ 15W KAD/KAM15 SERIES
footprint ACDC_KAM15xx
pins: 1 AC (power), 2 AC (power), 3 -Vout (power), 4 Trim (power), 6 +Vout (power)
1 alternate drawing of the same symbol
text: AC/DC

## KCPSC04-105
designator DS?
Display; Manufacturer_Name: Kingbright; Manufacturer_Part_Number: KCPSC04-105; Datasheet Link: http://www.kingbright.com/attachments/file/psearch/000/00/00/KCPSC04-105(Ver.8A).pdf; Height: 3.75mm; Mouser Part Number: N/A; Mouser Price/Stock: https://www.mouser.com/Search/Refine.aspx?Keyword=N%2FA
footprint KCPSC04105
footprint KCPSC04105 - internal
footprint KCPSC04105 - int_Extr_via
pins: 1 P(G1), 2 N(M), 3 M(L), 4 L(K), 5 dp, 6 C, 7 D, 8 E, 9 G(H), 10 A, 11 B, 12 K(G2), 13 J, 14 CC, 15 H(I), 16 F

## Kingbright-L-59EGC
designator HL?
L-59EGC является двухцветным индикаторным светодиодом с прозрачной линзой, THT, круглым профилем, мощностью света 150мкд, углом обзора 24°, длиной волны 625нм и 568нм. Высокая эффективность источника красного цвета обеспечивается GaAsP на GaP. Источник света зеленого цвета изготовлено из фосфида галлия.
footprint Kingbright-L-59EGC (Kingbright-Dual-LED-r/g)
pins: 1, 2, 3

## Kingbright-L-59GYC
designator HL?
L-59GYC, Светодиод зеленый/желтый 24° d=5мм 100/60мКд 568/588нМ
footprint Kingbright-L-59GYC (Kingbright-Dual-LED-y/g)
pins: 1, 2, 3

## Kingbright-L-469EGW
designator HL?
L-469EGW. светодиод красный /зеленый d=3мм 15/10мКд Цвета свечения красный, зелёный, Длина волны 1 цвета 627 нм, Сила света 1 кристалла 15 мкд, Угол по оризонтали 100 °, Тип линзы белая, матовая
footprint Kingbright-L-469EGW (Kingbright-Dual-LED-r/g)
pins: 1, 2, 3

## KLS1-603C-16
designator J?
12 pin slot; Manufacturer_Name: Connfly; Manufacturer_Part_Number: DS1069-8; System: Connector; Datasheet Link: https://static.chipdip.ru/lib/413/DOC001413777.pdf; Height: 7mm
footprint KLS1-603C-12
footprint KLS1-603C-12_master
pins: 1, 2, 3, 4, 5, 6, 7, 8, 9, 10, 11, 12
1 alternate drawing of the same symbol

## KLS1-603C-20
designator HS?
20 pin slot
footprint KLS1-603C-20
footprint KLS1-603C-20_master
pins: 1, 2, 3, 4, 5, 6, 7, 8, 9, 10, 11, 12, 13, 14, 15, 16, 17, 18, 19, 20
1 alternate drawing of the same symbol

## KLS1-603C-26
designator HS?
26 pin slot
footprint KLS1-603C-26
footprint KLS1-603C-26-TOP
pins: 1, 2, 3, 4, 5, 6, 7, 8, 9, 10, 11, 12, 13, 14, 15, 16, 17, 18, 19, 20, 21, 22, 23, 24, 25, 26

## KLS7-TS6604-7.0-180-T (SWT-34)
designator PB?
Button 3 pin
footprint Button_SMD
pins: 1, 3

## KP-1608MGC
designator LED?, comment Green  (value not drawn)
Green, water clear, Forward Voltage  2.0-2.5 V IF=20mA
footprint Led_0603_GREEN (GREEN)
pins: 1, 2

## KP-1608SURC
designator LED?, comment Red  (value not drawn)
Red, water clear, Forward Voltage  2.0-2.5 V IF=20mA
footprint Led_0603_RED (RED)
pins: 1, 2

## KP-2012CGC
designator LED?, comment Green
Green (AlGaInP) Water Clear, Forward Voltage  2.2-2.5 V IF=20mA
footprint KP-2012CGC (Green (AlGaInP) Water Clear)
pins: 1, 2

## KP-2012EC
designator LED?, comment Red
Red, Forward Voltage  2.0-2.5 V IF=20mA
footprint KP-2012EC (High Efficiency Red)
pins: 1, 2

## KP-2012SEC
designator LED?, comment Orange
Orange, water clear, Forward Voltage  2.0-2.5 V IF=20mA
footprint KP-2012SEC (Orange 601nm Water Clear)
pins: 1, 2

## KP-2012YC
designator LED?, comment Yellow
Yellow, Forward Voltage  2.1-2.5 V IF=20mA
footprint KP-2012YC (Yellow)
pins: 1, 2

## KP-3216SGC
designator LED?
LED; Manufacturer_Name: Kingbright; Manufacturer_Part_Number: KP-3216SGC; Datasheet Link: https://datasheet.datasheetarchive.com/originals/distributors/Datasheets-29/DSA-565642.pdf; Height: 1.1mm; Mouser Part Number: N/A; Mouser Price/Stock: https://www.mouser.co.uk/ProductDetail/Kingbright/KP-3216SGC?qs=2JU0tDl2GZ1h3KSAjgyUHw%3D%3D; Arrow Part Number: KP-3216SGC; Arrow Price/Stock: https://www.arrow.com/en/products/kp-3216sgc/kingbright?region=europe
footprint KP3216SGC
pins: 1, 2
1 alternate drawing of the same symbol

## KPH-1608PBC
designator LED?, comment Blue  (value not drawn)
Blue, water clear, Forward Voltage  2.0-2.5 V IF=20mA
footprint Led_0603_BLUE (BLUE)
pins: 1, 2

## KPH-1608SEC
designator LED?, comment Orange  (value not drawn)
Orange, water clear, Forward Voltage  2.0-2.5 V IF=20mA
footprint Led_0603_Orange (Orange)
pins: 1, 2

## KPH-1608SYC
designator LED?, comment Yellow  (value not drawn)
Yellow, water clear, Forward Voltage  2.0-2.5 V IF=20mA
footprint Led_0603_YELLOW (YELLOW)
pins: 1, 2

## L0603
designator L?
FERRITE BEAD
footprint L_0603 (Chip Ferrite Bead, Body 1.0x0.55mm, IPC Medium Density)
pins: 1, 2

## L-1394
designator HL?
2mm FLAT TOP LED LAMP
footprint 5.5x2x3.8_LED_RED (2mm FLAT TOP LED LAMP)
footprint 5.5x2x3.8_LED_YEL (2mm FLAT TOP LED LAMP)
pins: 1 A, 2 C

## L_CDRH5D28NP
designator L?, comment 10uH, 1.3A
CDRH5D28NP-100NC SMD Power Inductor SMD Power Inductor; Value: 10uH, 1.3A
footprint L-CDRH5D28-inductor
pins: 1, 2

## L_CR43
designator L?, comment CR43NP-1R8
SMD Power Inductor SMD Power Inductor / CR43
footprint LR43-inductor
pins: 1, 2

## LM2937IMP-3.3_NOPB
designator IC?
Integrated Circuit; Manufacturer_Name: Texas Instruments; Manufacturer_Part_Number: LM2937IMP-3.3/NOPB; Datasheet Link: https://www.ti.com/lit/ds/symlink/lm2937.pdf?ts=1607582693087&ref_url=https%253A%252F%252Fwww.ti.com%252Fsitesearch%252Fdocs%252Funiversalsearch.tsp%253FsearchTerm%253DLM2937IMP-3.3%252FNOPB; Height: 1.8mm; Mouser Part Number: 926-LM2937IMP3.3NOPB; Mouser Price/Stock: https://www.mouser.co.uk/ProductDetail/Texas-Instruments/LM2937IMP-33-NOPB/?qs=X1J7HmVL2ZFVwNOBcwuxRQ%3D%3D; Arrow Part Number: LM2937IMP-3.3/NOPB; Arrow Price/Stock: https://www.arrow.com/en/products/lm2937imp-3.3nopb/texas-instruments
footprint SOT230P700X180-4N
pins: 1 INPUT, 2 GND_1, 3 OUTPUT, 4 GND_2

## LM27313
designator IC?
1.6-MHz Boost Converter With 30-V Internal FET Switch; Manufacturer_Name: Analog Devices; Manufacturer_Part_Number: LT1935ES5TRMPBF; Datasheet Link: http://uk.rs-online.com/web/p/products/9199203; Height: 1mm
footprint SOT95P280X100-5N
footprint SOT23-5
pins: 1 SW, 2 GND, 3 FB, 4 ~{SHDN}, 5 VIN
1 alternate drawing of the same symbol

## LMC7101
designator U?
Single, CMOS, 1MHz, Rail-to-Rail In/Out Operational Amplifier
footprint SOT23-5
pins: 1 OUT (out), 2 V+ (power), 3 IN+ (in), 4 IN- (in), 5 V- (power)
text: VCC; GND

## LMC7101AYM5-TR
designator IC?
Integrated Circuit; Manufacturer_Name: Microchip; Manufacturer_Part_Number: LMC7101AYM5-TR; Datasheet Link: http://ww1.microchip.com/downloads/en/DeviceDoc/lmc7101.pdf; Height: 1.3mm; Mouser Part Number: 998-LMC7101AYM5TR; Mouser Price/Stock: https://www.mouser.co.uk/ProductDetail/Microchip-Technology-Micrel/LMC7101AYM5-TR?qs=Y3Q3JoKAO1Qdmu3Nuqy2dQ%3D%3D
footprint SOT95P280X130-5N
pins: 1 OUT (out), 2 V+ (power), 3 IN+ (in), 4 IN- (in), 5 V- (power)

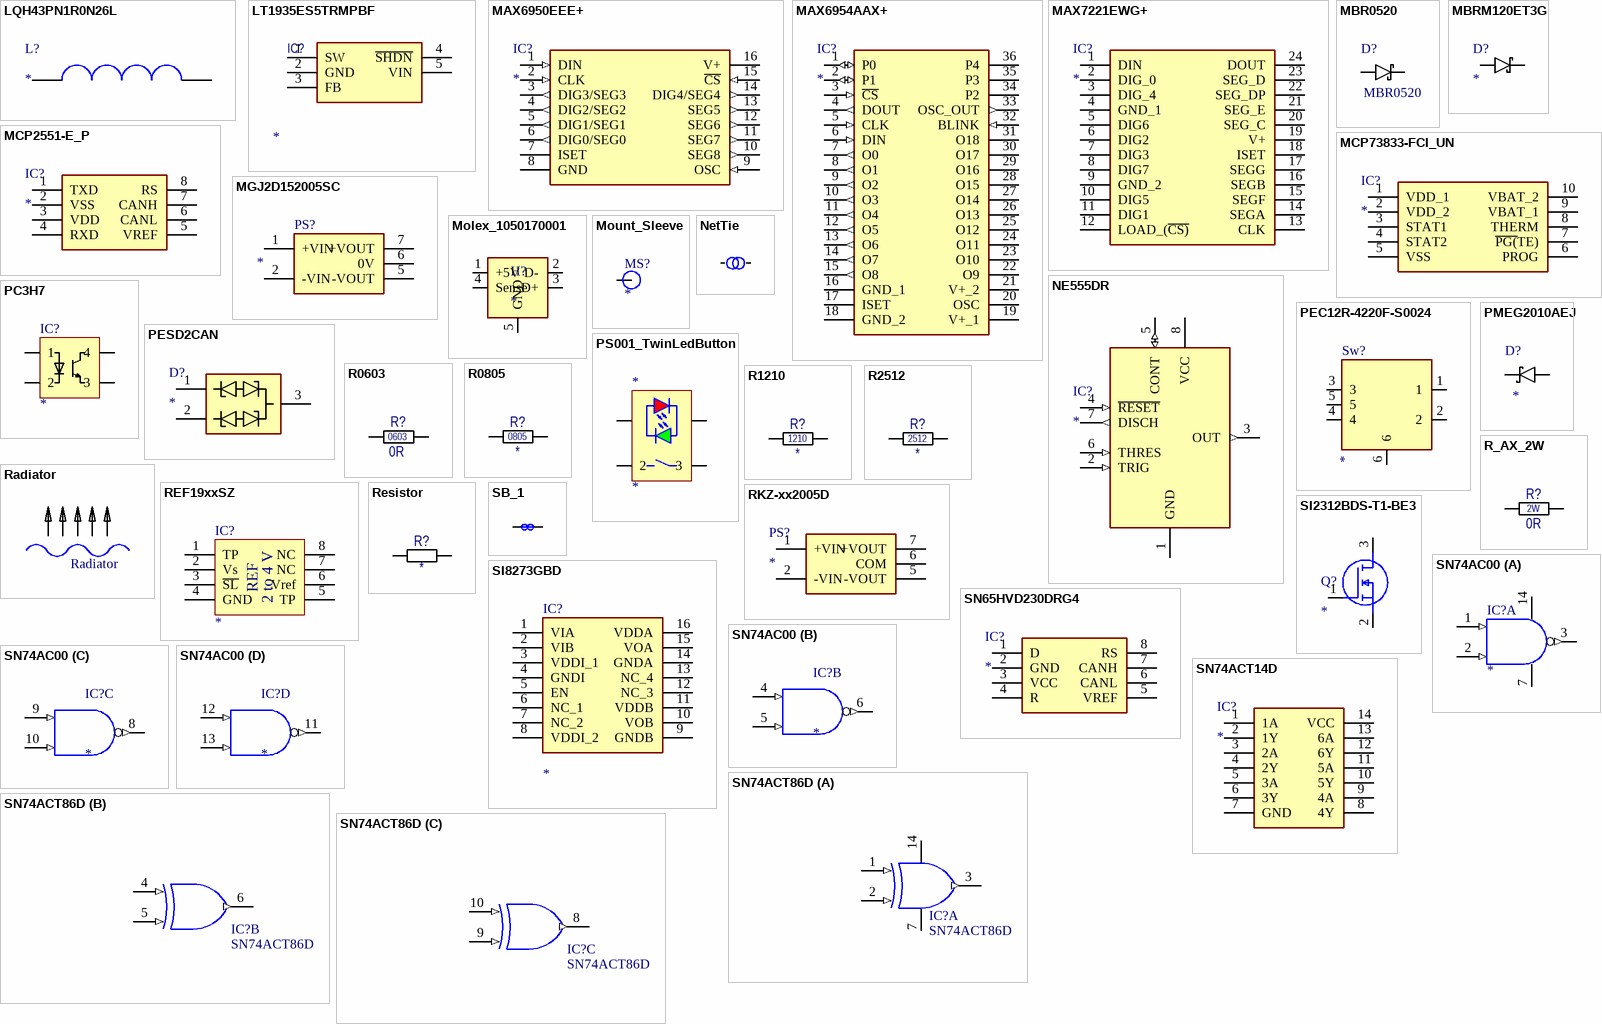
[diagram p3: symbols LQH43PN1R0N26L to SN74ACT86D]

## LQH43PN1R0N26L
designator L?
Inductor; Manufacturer_Name: Murata Electronics; Manufacturer_Part_Number: LQH43PN1R0N26L; Datasheet Link: https://psearch.en.murata.com/inductor/product/LQH43PN1R0N26%23.html; Height: 2.8mm; Mouser Part Number: 81-LQH43PN1R0N26L; Mouser Price/Stock: https://www.mouser.co.uk/ProductDetail/Murata-Electronics/LQH43PN1R0N26L?qs=Gufeu08L%2Fl2XSyiKW%252BVtsA%3D%3D; Arrow Part Number: LQH43PN1R0N26L; Arrow Price/Stock: https://www.arrow.com/en/products/lqh43pn1r0n26l/murata-manufacturing
footprint LQH43MN470K03L
pins: 1, 2

## LT1935ES5TRMPBF
designator IC?
1.2MHz Boost DC/DC Converter; Manufacturer_Name: Analog Devices; Manufacturer_Part_Number: LT1935ES5TRMPBF; Datasheet Link: http://uk.rs-online.com/web/p/products/9199203; Height: 1mm
footprint SOT95P280X100-5N
footprint SOT23-5
pins: 1 SW, 2 GND, 3 FB, 4 ~{SHDN}, 5 VIN
1 alternate drawing of the same symbol

## MAX6950EEE+
designator IC?
Integrated Circuit; Manufacturer_Name: Maxim Integrated; Manufacturer_Part_Number: MAX6950EEE+; Datasheet Link: http://docs-emea.rs-online.com/webdocs/0f72/0900766b80f72b37.pdf; Height: 1.73mm; Mouser Part Number: 700-MAX6950EEE; Mouser Price/Stock: https://www.mouser.co.uk/ProductDetail/Maxim-Integrated/MAX6950EEE%2b?qs=p6VZ%252BklCkRS56WQh1hRPuA%3D%3D
footprint SOP64P602X173-16N
pins: 1 DIN (in), 2 CLK (in), 3 DIG3/SEG3 (out), 4 DIG2/SEG2 (out), 5 DIG1/SEG1 (out), 6 DIG0/SEG0 (out), 7 ISET, 8 GND (power), 9 OSC (in), 10 SEG8 (out), 11 SEG7 (out), 12 SEG6 (out), 13 SEG5 (out), 14 DIG4/SEG4 (out), 15 ~{CS} (in), 16 V+ (power)

## MAX6954AAX+
designator IC?
Integrated Circuit; Manufacturer_Name: Maxim Integrated; Manufacturer_Part_Number: MAX6954AAX+; Datasheet Link: http://datasheets.maximintegrated.com/en/ds/MAX6954.pdf; Height: 2.64mm; Mouser Part Number: 700-MAX6954AAX; Mouser Price/Stock: https://www.mouser.co.uk/ProductDetail/Maxim-Integrated/MAX6954AAX%2b/?qs=1THa7WoU59HhfWPau0CYaQ%3D%3D
footprint SOP80P1030X264-36N
pins: 1 P0 (io), 2 P1 (io), 3 ~{CS} (in), 4 DOUT (out), 5 CLK (in), 6 DIN (in), 7 O0 (out), 8 O1 (out), 9 O2 (out), 10 O3 (out), 11 O4 (out), 12 O5 (out), 13 O6 (out), 14 O7 (out), 15 O8 (out), 16 GND_1 (power), 17 ISET, 18 GND_2 (power), 19 V+_1, 20 OSC, 21 V+_2, 22 O9, 23 O10, 24 O11, 25 O12, 26 O13, 27 O14, 28 O15, 29 O16, 30 O17, 31 O18, 32 BLINK (in), 33 OSC_OUT (out), 34 P2, 35 P3, 36 P4

## MAX7221EWG+
designator IC?
Integrated Circuit; Manufacturer_Name: Maxim Integrated; Manufacturer_Part_Number: MAX7221EWG+; Datasheet Link: http://datasheets.maximintegrated.com/en/ds/MAX7219-MAX7221.pdf; Height: 2.65mm; Mouser Part Number: 700-MAX7221EWG; Mouser Price/Stock: https://www.mouser.co.uk/ProductDetail/Maxim-Integrated/MAX7221EWG%2b?qs=1THa7WoU59EcwjgGV%252Bu7MA%3D%3D
footprint SOIC127P1032X265-24N
pins: 1 DIN, 2 DIG_0, 3 DIG_4, 4 GND_1, 5 DIG6, 6 DIG2, 7 DIG3, 8 DIG7, 9 GND_2, 10 DIG5, 11 DIG1, 12 LOAD_(~{CS)}, 13 CLK, 14 SEGA, 15 SEGF, 16 SEGB, 17 SEGG, 18 ISET, 19 V+, 20 SEG_C, 21 SEG_E, 22 SEG_DP, 23 SEG_D, 24 DOUT

## MBR0520
designator D?
Case: SOD-123, 20V 0.5A
footprint SOD-123 (Schottky Rectifier)
pins: 1 A, 2 C

## MBRM120ET3G
designator D?
Schottky Diode; Manufacturer_Name: onsemi; Manufacturer_Part_Number: MBRM120ET3G; Datasheet Link: http://www.onsemi.com/pub/Collateral/MBRM120E-D.PDF; Height: 1.15mm; Mouser Part Number: 863-MBRM120ET3G; Mouser Price/Stock: https://www.mouser.co.uk/ProductDetail/onsemi/MBRM120ET3G?qs=3JMERSakebqQQuXG42Lkdg%3D%3D; Arrow Part Number: MBRM120ET3G; Arrow Price/Stock: https://www.arrow.com/en/products/mbrm120et3g/on-semiconductor
footprint MBRM120ET3G
pins: 1 K, 2 A

## MCP2551-E_P
designator IC?
Integrated Circuit; Manufacturer_Name: Microchip; Manufacturer_Part_Number: MCP2551-E/P; Datasheet Link: http://componentsearchengine.com/Datasheets/1/MCP2551-E_P.pdf; Height: 4.32mm; Mouser Part Number: 579-MCP2551-E/P; Mouser Price/Stock: https://www.mouser.co.uk/ProductDetail/Microchip-Technology/MCP2551-E-P/?qs=0st6i8lJel5By%2FScxOd%2FTw%3D%3D; Arrow Part Number: MCP2551-E/P; Arrow Price/Stock: https://www.arrow.com/en/products/mcp2551-ep/microchip-technology
footprint SOIC127P600X175-8N
pins: 1 TXD, 2 VSS, 3 VDD, 4 RXD, 5 VREF, 6 CANL, 7 CANH, 8 RS

## MCP73833-FCI_UN
designator IC?
Integrated Circuit; Manufacturer_Name: Microchip; Manufacturer_Part_Number: MCP73833-FCI/UN; Datasheet Link: http://docs-emea.rs-online.com/webdocs/0d2b/0900766b80d2b5f2.pdf; Height: 1.1mm; Mouser Part Number: 579-MCP73833-FCI/UN; Mouser Price/Stock: https://www.mouser.co.uk/ProductDetail/Microchip-Technology/MCP73833-FCI-UN?qs=jZi1jxfVU96PZdBhDFXCmg%3D%3D; Arrow Part Number: MCP73833-FCI/UN; Arrow Price/Stock: https://www.arrow.com/en/products/mcp73833-fciun/microchip-technology
footprint SOP50P490X110-10N
pins: 1 VDD_1, 2 VDD_2, 3 STAT1, 4 STAT2, 5 VSS, 6 PROG, 7 ~{PG(}TE), 8 THERM, 9 VBAT_1, 10 VBAT_2

## MGJ2D152005SC
designator PS?
Power Supply; Manufacturer_Name: Murata Electronics; Manufacturer_Part_Number: MGJ2D152005SC; Datasheet Link: https://power.murata.com/pub/data/power/ncl/kdc_mgj2.pdf; Height: 12mm; Mouser Part Number: 580-MGJ2D152005SC; Mouser Price/Stock: https://www.mouser.co.uk/ProductDetail/Murata-Power-Solutions/MGJ2D152005SC?qs=xLDY6iXSiQa7vt85oG1TwQ%3D%3D; Arrow Part Number: MGJ2D152005SC; Arrow Price/Stock: https://www.arrow.com/en/products/mgj2d152005sc/murata-power-solutions?region=nac
footprint MGJ2D051505SC
pins: 1 +VIN, 2 -VIN, 5 -VOUT, 6 0V, 7 +VOUT

## Molex_1050170001
designator H?
Micro-USB B Receptacle, Bottom Mount, Surface Mount, with Solder Tabs, Lead-Free; ComponentLink1Description: Molex_1050170001; ComponentLink1URL: https://www.molex.com/molex/products/part-detail/io_connectors/1050170001
footprint Molex_1050170001 (uUSB)
pins: 1 +5V, 2 D-, 3 D+, 4 Sense, 5 GND

## Mount_Sleeve
designator MS?
footprint Mount_sleeve (1,5 mm offset, 6mm length, 5 mm dia)
footprint Mount_Vert (1,5 mm offset, 6mm length, 5 mm dia)
pins: 1

## NE555DR
designator IC?
Integrated Circuit; Manufacturer_Name: Texas Instruments; Manufacturer_Part_Number: NE555DR; Datasheet Link: http://www.ti.com/lit/ds/symlink/ne555.pdf; Height: 1.75mm; Mouser Part Number: 595-NE555DR; Mouser Price/Stock: https://www.mouser.com/Search/Refine.aspx?Keyword=595-NE555DR; RS Part Number: 1218414; RS Price/Stock: http://uk.rs-online.com/web/p/products/1218414
footprint SOIC127P600X175-8N
pins: 1 GND (power), 2 TRIG (in), 3 OUT (out), 4 ~{RESET} (in), 5 CONT (io), 6 THRES (in), 7 DISCH (out), 8 VCC (power)

## NetTie
designator NT?  (value not drawn)  (graphical)
pins: 1, 2
1 alternate drawing of the same symbol

## PC3H7
designator IC?
footprint PC3H7 (Photocoupler)
pins: 1, 2, 3, 4

## PEC12R-4220F-S0024
designator Sw?
Bourns Inc. Encoder; Manufacturer_Part_Number: PEC12R-4220F-S0024; Datasheet Link: https://componentsearchengine.com/Datasheets/5/PEC12R-4220F-S0024.pdf; Height: 20mm; Manufacturer_Name: Bourns; Mouser Part Number: 652-PEC12R-4220F-S24; Mouser Price/Stock: https://www.mouser.co.uk/ProductDetail/Bourns/PEC12R-4220F-S0024?qs=Zq5ylnUbLm7u%2FuPQvUoR4Q%3D%3D; Arrow Part Number: PEC12R-4220F-S0024; Arrow Price/Stock: https://www.arrow.com/en/products/pec12r-4220f-s0024/bourns
footprint PEC12R4220FS0024
footprint PEC12R4220FS0024_w_ang
pins: 1, 2, 3, 4, 5, 6
1 alternate drawing of the same symbol